# Altium footprint library Guard.PcbLib: 1 footprints
Each footprint in its own frame and in the unit in brackets; x right, y up, seen from the top. Pads: shape width x height; smd on the part's side, far side on the other; paste and mask are expansions set on the pad; w line width, h text height; cw(c..) or ccw(c..) is an arc to the next point about the centre after c.
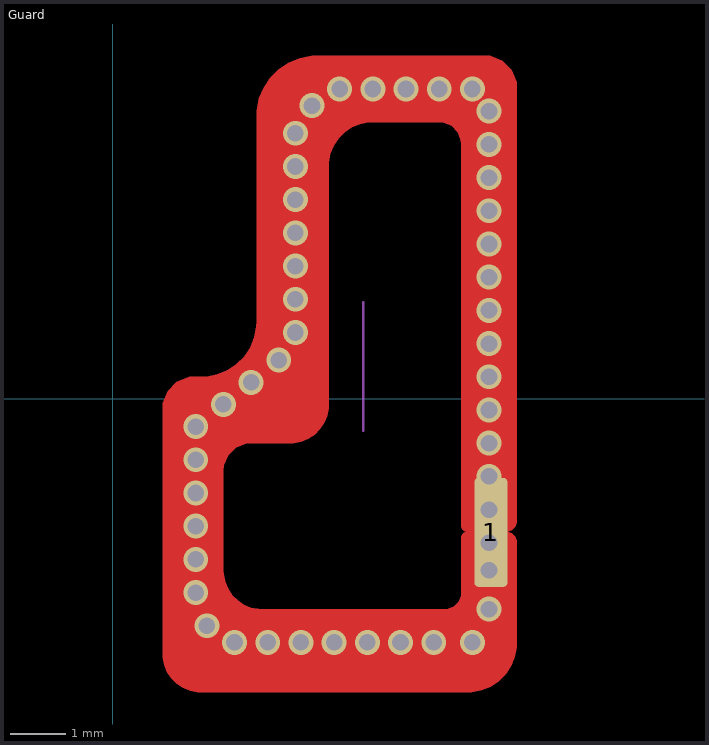
[diagram p0: the footprint, top view; thin cyan lines are the x and y axes]

## Guard [mm]
pads (1):
  rrect25% 0.6x1.97 smd: 1(6.834,-2.411)
via 6.8,-2.6 diameter 0.45 hole 0.3
via 6.8,-2 diameter 0.45 hole 0.3
via 6.8,-1.4 diameter 0.45 hole 0.3
via 6.8,-0.8 diameter 0.45 hole 0.3
via 6.8,-0.2 diameter 0.45 hole 0.3
via 6.8,0.4 diameter 0.45 hole 0.3
via 6.8,1 diameter 0.45 hole 0.3
via 6.8,1.6 diameter 0.45 hole 0.3
via 6.8,2.2 diameter 0.45 hole 0.3
via 6.8,2.8 diameter 0.45 hole 0.3
via 6.8,3.4 diameter 0.45 hole 0.3
via 6.8,4 diameter 0.45 hole 0.3
via 6.8,4.6 diameter 0.45 hole 0.3
via 6.8,5.2 diameter 0.45 hole 0.3
via 6.5,5.6 diameter 0.45 hole 0.3
via 5.9,5.6 diameter 0.45 hole 0.3
via 5.3,5.6 diameter 0.45 hole 0.3
via 4.7,5.6 diameter 0.45 hole 0.3
via 4.1,5.6 diameter 0.45 hole 0.3
via 3.6,5.3 diameter 0.45 hole 0.3
via 3.3,4.8 diameter 0.45 hole 0.3
via 3.3,4.2 diameter 0.45 hole 0.3
via 3.3,3.6 diameter 0.45 hole 0.3
via 3.3,3 diameter 0.45 hole 0.3
via 3.3,2.4 diameter 0.45 hole 0.3
via 3.3,1.8 diameter 0.45 hole 0.3
via 3.3,1.2 diameter 0.45 hole 0.3
via 3,0.7 diameter 0.45 hole 0.3
via 2.5,0.3 diameter 0.45 hole 0.3
via 2,-0.1 diameter 0.45 hole 0.3
via 1.5,-0.5 diameter 0.45 hole 0.3
via 1.5,-1.1 diameter 0.45 hole 0.3
via 1.5,-1.7 diameter 0.45 hole 0.3
via 1.5,-2.3 diameter 0.45 hole 0.3
via 1.5,-2.9 diameter 0.45 hole 0.3
via 1.5,-3.5 diameter 0.45 hole 0.3
via 1.7,-4.1 diameter 0.45 hole 0.3
via 2.2,-4.4 diameter 0.45 hole 0.3
via 2.8,-4.4 diameter 0.45 hole 0.3
via 3.4,-4.4 diameter 0.45 hole 0.3
via 4,-4.4 diameter 0.45 hole 0.3
via 4.6,-4.4 diameter 0.45 hole 0.3
via 5.2,-4.4 diameter 0.45 hole 0.3
via 5.8,-4.4 diameter 0.45 hole 0.3
via 6.5,-4.4 diameter 0.45 hole 0.3
via 6.8,-3.8 diameter 0.45 hole 0.3
via 6.8,-3.1 diameter 0.45 hole 0.3
Top Layer:
  region: 6.3,-3.5 6.294,-3.559 6.249,-3.667 6.167,-3.749 6.059,-3.794 6,-3.8 2.7,-3.8 2.631,-3.797 2.497,-3.77 2.37,-3.717 2.256,-3.641 2.159,-3.544 2.083,-3.43 2.03,-3.303 2.003,-3.169 2,-3.1 2,-1.3 2.01,-1.202 2.084,-1.022 2.222,-0.884 2.402,-0.81 2.5,-0.8 3.2,-0.8 3.269,-0.8 3.404,-0.773 3.532,-0.72 3.646,-0.644 3.744,-0.546 3.82,-0.432 3.873,-0.304 3.9,-0.169 3.9,-0.1 3.9,4.2 3.904,4.278 3.934,4.432 3.994,4.577 4.082,4.708 4.192,4.818 4.323,4.906 4.468,4.966 4.622,4.996 4.7,5 5.9,5 5.978,4.992 6.122,4.933 6.233,4.822 6.292,4.678 6.3,4.6 6.3,-2.3 6.3,-2.32 6.315,-2.357 6.343,-2.385 6.38,-2.4 6.4,-2.4 7.1,-2.4 7.14,-2.4 7.213,-2.37 7.27,-2.313 7.3,-2.24 7.3,-2.2 7.3,5.6 7.3,5.719 7.209,5.94 7.04,6.109 6.819,6.2 6.7,6.2 3.7,6.2 3.592,6.2 3.379,6.158 3.179,6.075 2.999,5.954 2.846,5.801 2.725,5.621 2.642,5.421 2.6,5.208 2.6,5.1 2.6,1.4 2.595,1.302 2.557,1.11 2.482,0.929 2.373,0.766 2.234,0.627 2.071,0.518 1.89,0.443 1.698,0.405 1.6,0.4 1.5,0.4 1.381,0.4 1.16,0.309 0.991,0.14 0.9,-0.081 0.9,-0.2 0.9,-4.6 0.9,-4.669 0.927,-4.804 0.98,-4.932 1.056,-5.046 1.154,-5.144 1.268,-5.22 1.396,-5.273 1.531,-5.3 1.6,-5.3 6.4,-5.3 6.489,-5.3 6.663,-5.265 6.826,-5.198 6.974,-5.099 7.099,-4.974 7.198,-4.826 7.265,-4.663 7.3,-4.489 7.3,-4.4 7.3,-2.6 7.3,-2.56 7.27,-2.487 7.213,-2.43 7.14,-2.4 7.1,-2.4 6.4,-2.4 6.38,-2.4 6.343,-2.415 6.315,-2.443 6.3,-2.48 6.3,-2.5
Int2 (Sign):
  region: 7.3,-4.5 7.3,-4.579 7.269,-4.733 7.209,-4.879 7.121,-5.01 7.01,-5.121 6.879,-5.209 6.733,-5.269 6.579,-5.3 6.5,-5.3 1.6,-5.3 1.531,-5.3 1.396,-5.273 1.268,-5.22 1.154,-5.144 1.056,-5.046 0.98,-4.932 0.927,-4.804 0.9,-4.669 0.9,-4.6 0.9,-0.2 0.9,-0.081 0.991,0.14 1.16,0.309 1.381,0.4 1.5,0.4 1.6,0.4 1.698,0.405 1.89,0.443 2.071,0.518 2.234,0.627 2.373,0.766 2.482,0.929 2.557,1.11 2.595,1.302 2.6,1.4 2.6,5.1 2.6,5.208 2.642,5.421 2.725,5.621 2.846,5.801 2.999,5.954 3.179,6.075 3.379,6.158 3.592,6.2 3.7,6.2 6.7,6.2 6.819,6.2 7.04,6.109 7.209,5.94 7.3,5.719 7.3,5.6
Int3 (Sign):
  region: 7.3,-4.5 7.3,-4.579 7.269,-4.733 7.209,-4.879 7.121,-5.01 7.01,-5.121 6.879,-5.209 6.733,-5.269 6.579,-5.3 6.5,-5.3 1.6,-5.3 1.531,-5.3 1.396,-5.273 1.268,-5.22 1.154,-5.144 1.056,-5.046 0.98,-4.932 0.927,-4.804 0.9,-4.669 0.9,-4.6 0.9,-0.2 0.9,-0.081 0.991,0.14 1.16,0.309 1.381,0.4 1.5,0.4 1.6,0.4 1.698,0.405 1.89,0.443 2.071,0.518 2.234,0.627 2.373,0.766 2.482,0.929 2.557,1.11 2.595,1.302 2.6,1.4 2.6,5.1 2.6,5.208 2.642,5.421 2.725,5.621 2.846,5.801 2.999,5.954 3.179,6.075 3.379,6.158 3.592,6.2 3.7,6.2 6.7,6.2 6.819,6.2 7.04,6.109 7.209,5.94 7.3,5.719 7.3,5.6
Top Solder:
  region: 7.3,-4.4 7.3,-4.489 7.265,-4.663 7.198,-4.826 7.099,-4.974 6.974,-5.099 6.826,-5.198 6.663,-5.265 6.489,-5.3 6.4,-5.3 1.6,-5.3 1.531,-5.3 1.396,-5.273 1.268,-5.22 1.154,-5.144 1.056,-5.046 0.98,-4.932 0.927,-4.804 0.9,-4.669 0.9,-4.6 0.9,-0.1 0.9,-0.001 0.976,0.183 1.117,0.324 1.301,0.4 1.4,0.4 1.6,0.4 1.698,0.405 1.89,0.443 2.071,0.518 2.234,0.627 2.373,0.766 2.482,0.929 2.557,1.11 2.595,1.302 2.6,1.4 2.6,5.2 2.6,5.298 2.638,5.492 2.714,5.674 2.823,5.837 2.963,5.977 3.126,6.086 3.308,6.162 3.502,6.2 3.6,6.2 6.7,6.2 6.819,6.2 7.04,6.109 7.209,5.94 7.3,5.719 7.3,5.6
Int1 (GND):
  region: 7.3,-4.5 7.3,-4.579 7.269,-4.733 7.209,-4.879 7.121,-5.01 7.01,-5.121 6.879,-5.209 6.733,-5.269 6.579,-5.3 6.5,-5.3 1.6,-5.3 1.531,-5.3 1.396,-5.273 1.268,-5.22 1.154,-5.144 1.056,-5.046 0.98,-4.932 0.927,-4.804 0.9,-4.669 0.9,-4.6 0.9,-0.2 0.9,-0.081 0.991,0.14 1.16,0.309 1.381,0.4 1.5,0.4 1.6,0.4 1.698,0.405 1.89,0.443 2.071,0.518 2.234,0.627 2.373,0.766 2.482,0.929 2.557,1.11 2.595,1.302 2.6,1.4 2.6,5.1 2.6,5.208 2.642,5.421 2.725,5.621 2.846,5.801 2.999,5.954 3.179,6.075 3.379,6.158 3.592,6.2 3.7,6.2 6.7,6.2 6.819,6.2 7.04,6.109 7.209,5.94 7.3,5.719 7.3,5.6
Mechanical 15:
  lines w0.05: 4.526,-0.569 4.526,1.747